# EAGLE library part NRF24L01_MODULE (library Nordic Semiconductors 2.4GHz Transceiver)
This module based on Nordic nRF24L01, highly integrated, ultra low power (ULP) 2Mbps RF transceiver for the 2.4GHz ISM (Industrial, Scientific and Medical) band. Nordic nRF24L01+ integrates a complete 2.4GHz RF transceiver, RF synthesizer, and baseband logic including the Enhanced ShockBurst™ hardware protocol accelerator supporting a high-speed SPI interface for the application controller.
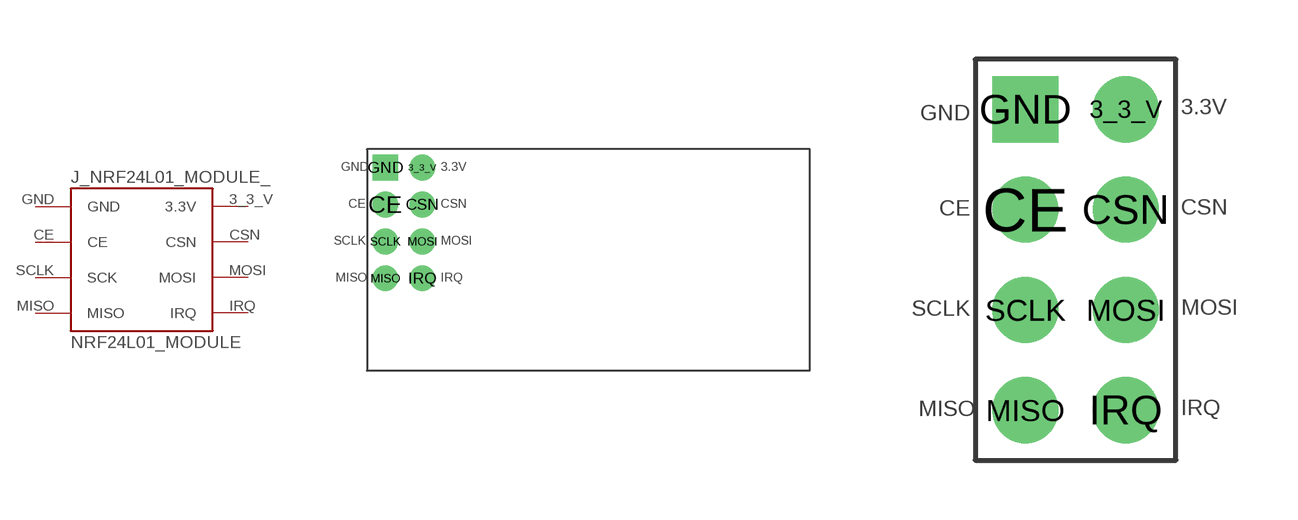
[diagram p0: symbol with the pads of NRF24L01_MODULE_FOOTPRINT; footprints NRF24L01_MODULE_FOOTPRINT, NRF24L01_MODULE_FOOTPRINT_SMALL]

Designator prefix J_NRF24L01_MODULE_

## NRF24L01_MODULE  [NRF24L01_MODULE_FOOTPRINT]
3_3_V  3.3V
CE  CE
CSN  CSN
GND  GND
IRQ  IRQ
MISO  MISO
MOSI  MOSI
SCLK  SCK

## NRF24L01_MODULESMALL  [NRF24L01_MODULE_FOOTPRINT_SMALL]
Pads as for NRF24L01_MODULE_FOOTPRINT

## Footprint NRF24L01_MODULE_FOOTPRINT (pad centres in mm)
This module based on Nordic nRF24L01, highly integrated, ultra low power (ULP) 2Mbps RF transceiver for the 2.4GHz ISM (Industrial, Scientific and Medical) band. Nordic nRF24L01+ integrates a complete 2.4GHz RF transceiver, RF synthesizer, and baseband logic including the Enhanced ShockBurst™ hardware protocol accelerator supporting a high-speed SPI interface for the application controller.
drill 0.9 pad 1.778: 3_3_V -11.43,6.35; CE -13.97,3.81; CSN -11.43,3.81; IRQ -11.43,-1.27; MISO -13.97,-1.27; MOSI -11.43,1.27; SCLK -13.97,1.27
drill 0.9 pad 1.778 square: GND -13.97,6.35

## Footprint NRF24L01_MODULE_FOOTPRINT_SMALL (pad centres in mm)
drill 0.9 pad 1.676: 3_3_V 1.27,3.81; CE -1.27,1.27; CSN 1.27,1.27; IRQ 1.27,-3.81; MISO -1.27,-3.81; MOSI 1.27,-1.27; SCLK -1.27,-1.27
drill 0.9 pad 1.676 square: GND -1.27,3.81